# EAGLE library part LOGIK_SHIFT8 (library robo_ag)
Logikgatter Reichelt: SMD HC 595 Schieberegister 8bit 5V
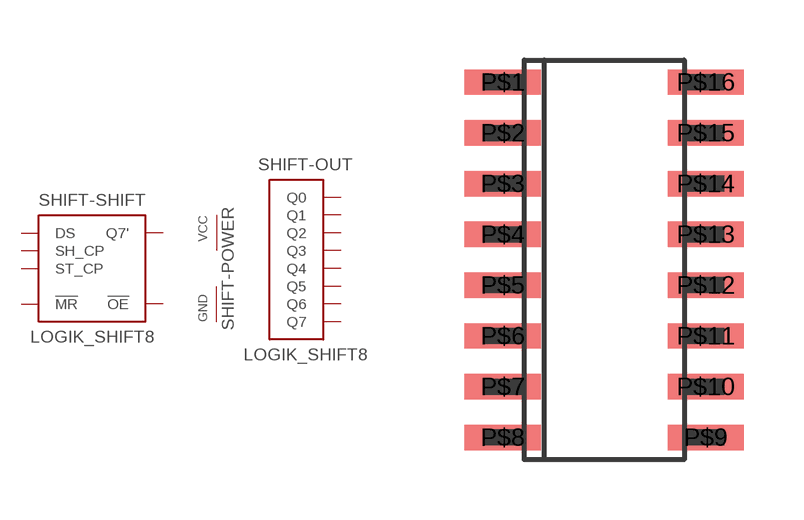
[diagram p14: symbol with the pads of IC_SOIC16; footprint IC_SOIC16]

Designator prefix SHIFT; gates -POWER=POWER -SHIFT=LOGIK_SHIFT -OUT=LOGIK_OUT_7

## LOGIK_SHIFT8  [IC_SOIC16]
P$1  -OUT:Q1  out
P$2  -OUT:Q2  out
P$3  -OUT:Q3  out
P$4  -OUT:Q4  out
P$5  -OUT:Q5  out
P$6  -OUT:Q6  out
P$7  -OUT:Q7  out
P$8  -POWER:GND  pwr
P$9  -SHIFT:Q7'  out
P$10  -SHIFT:!MR  in
P$11  -SHIFT:SH_CP  in
P$12  -SHIFT:ST_CP  in
P$13  -SHIFT:!OE  in
P$14  -SHIFT:DS  in
P$15  -OUT:Q0  out
P$16  -POWER:VCC  pwr

## Footprint IC_SOIC16 (pad centres in mm)
smd 1.905 x 0.635: P$1 -2.54,4.445; P$2 -2.54,3.175; P$3 -2.54,1.905; P$4 -2.54,0.635; P$5 -2.54,-0.635; P$6 -2.54,-1.905; P$7 -2.54,-3.175; P$8 -2.54,-4.445; P$9 2.54,-4.445; P$10 2.54,-3.175; P$11 2.54,-1.905; P$12 2.54,-0.635; P$13 2.54,0.635; P$14 2.54,1.905; P$15 2.54,3.175; P$16 2.54,4.445